# EAGLE library part DCCM9SCBRPN (library ds_con)
Micro-D Commercial PCB Mount
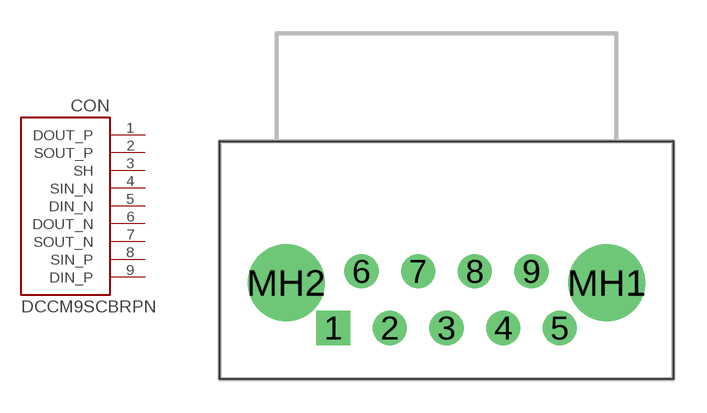
[diagram p3: symbol with the pads of DCCM9SCBRPN; footprint DCCM9SCBRPN]

Designator prefix CON

## DCCM9SCBRPN  [DCCM9SCBRPN]
1  DOUT_P
2  SOUT_P
3  SH
4  SIN_N
5  DIN_N
6  DOUT_N
7  SOUT_N
8  SIN_P
9  DIN_P

## Footprint DCCM9SCBRPN (pad centres in mm)
drill 1.02 pad 1.397 square: 1 -5.08,-3.81
drill 1.02 pad 1.53: 2 -2.54,-3.81; 3 0,-3.81; 4 2.54,-3.81; 5 5.08,-3.81; 6 -3.81,-1.27; 7 -1.27,-1.27; 8 1.27,-1.27; 9 3.81,-1.27
drill 2.44 pad 3.048: MH1 7.188,-1.778; MH2 -7.188,-1.778